# Altium integrated library DI330N04D7.IntLib: 1 symbol
Pins are listed as number, name and electrical type; pins without a type are passive.

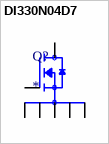
[diagram p0: symbol DI330N04D7]

## DI330N04D7
designator Q?
MP: DI330N04D7; Package: None; Price: None; Value: *; Availability: Unavailable
footprint TO127P1520X470-7N
pins: 1 G, 2 S1, 3 S2, 5 S3, 6 S4, 7 S5, 8 D